# Altium footprint library Footprints.PcbLib: 27 footprints (part 2 of 2)
Each footprint in its own frame and in the unit in brackets; x right, y up, seen from the top. Pads: shape width x height; smd on the part's side, far side on the other; paste and mask are expansions set on the pad; w line width, h text height; cw(c..) or ccw(c..) is an arc to the next point about the centre after c.
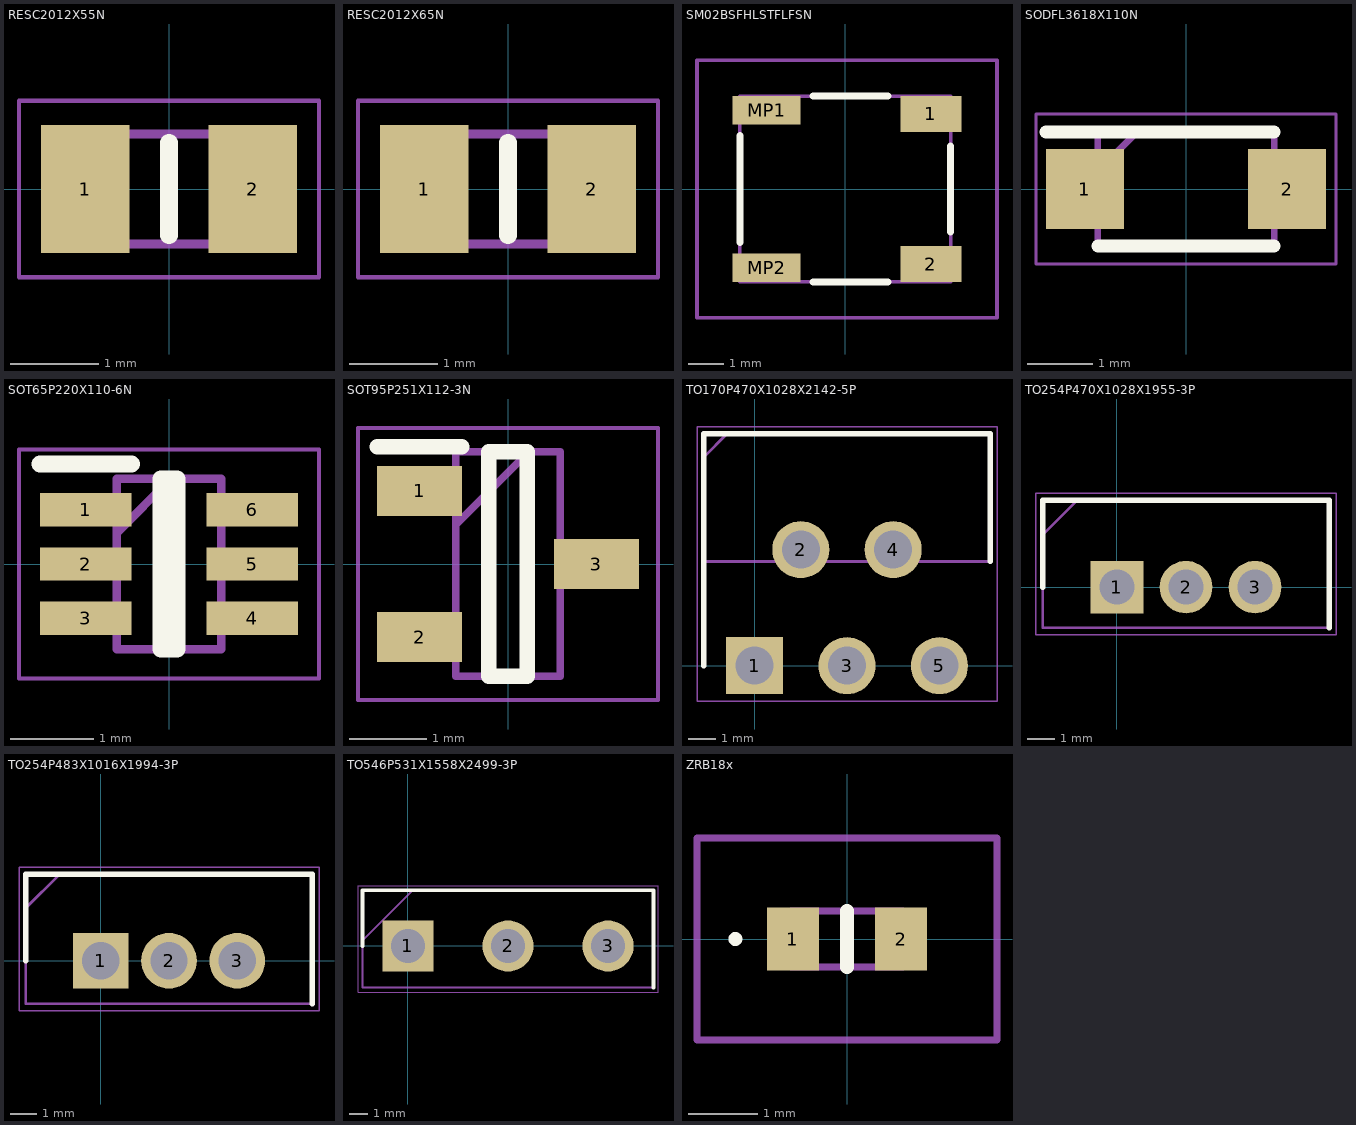
[diagram p1: the footprints below, top view; thin cyan lines are the x and y axes]

## RESC2012X55N [mm]
pads (2):
  rect 1x1.45 smd: 1(-0.95,0) 2(0.95,0)
Top Overlay:
  lines w0.2: 0,-0.525 0,0.525
Mechanical 15:
  lines w0.1: -1,-0.625 1,-0.625 1,0.625 -1,0.625 -1,-0.625
Mechanical 20:
  lines w0.05: -1.7,-1 1.7,-1 1.7,1 -1.7,1 -1.7,-1

## RESC2012X65N [mm]
pads (2):
  rect 1x1.45 smd: 1(-0.95,0) 2(0.95,0)
Top Overlay:
  lines w0.2: 0,-0.525 0,0.525
Mechanical 15:
  lines w0.1: -1,-0.625 -1,0.625 1,0.625 1,-0.625 -1,-0.625
Mechanical 20:
  lines w0.05: -1.7,-1 -1.7,1 1.7,1 1.7,-1 -1.7,-1

## SM02BSFHLSTFLFSN [mm]
pads (4):
  rect 1.7x1 smd: 1(2.4,2.1) 2(2.4,-2.1)
  rect 1.9x0.8 smd: MP1(-2.2,2.2) MP2(-2.2,-2.2)
Top Overlay:
  lines w0.2: -2.95,-1.5 -2.95,1.5 ; -0.9,-2.6 1.2,-2.6 ; -0.9,2.6 1.2,2.6 ; 2.95,-1.2 2.95,1.2
Mechanical 15:
  lines w0.1: -2.95,-2.6 -2.95,2.6 2.95,2.6 2.95,-2.6 -2.95,-2.6
Mechanical 20:
  lines w0.1: -4.15,-3.6 -4.15,3.6 4.25,3.6 4.25,-3.6 -4.15,-3.6

## SODFL3618X110N [mm]
pads (2):
  rect 1.2x1.22 smd: 1(-1.55,0) 2(1.55,0)
Top Overlay:
  lines w0.2: -2.15,0.875 1.35,0.875 ; -1.35,-0.875 1.35,-0.875
Mechanical 15:
  lines w0.1: -1.35,0.275 -0.75,0.875 ; -1.35,-0.875 1.35,-0.875 1.35,0.875 -1.35,0.875 -1.35,-0.875
Mechanical 20:
  lines w0.05: -2.3,-1.15 2.3,-1.15 2.3,1.15 -2.3,1.15 -2.3,-1.15

## SOT65P220X110-6N [mm]
pads (6):
  rect 1.1x0.4 smd: 1(-1,0.65) 2(-1,0) 3(-1,-0.65) 4(1,-0.65) 5(1,0) 6(1,0.65)
Top Overlay:
  lines w0.2: -1.55,1.2 -0.45,1.2 ; -0.1,-1.025 -0.1,1.025 0.1,1.025 0.1,-1.025 -0.1,-1.025
Mechanical 15:
  lines w0.1: -0.625,0.375 0.025,1.025 ; -0.625,-1.025 -0.625,1.025 0.625,1.025 0.625,-1.025 -0.625,-1.025
Mechanical 20:
  lines w0.05: -1.8,-1.375 -1.8,1.375 1.8,1.375 1.8,-1.375 -1.8,-1.375

## SOT95P251X112-3N [mm]
pads (3):
  rect 1.1x0.65 smd: 1(-1.15,0.95) 2(-1.15,-0.95) 3(1.15,0)
Top Overlay:
  lines w0.2: -1.7,1.525 -0.6,1.525 ; -0.25,-1.46 -0.25,1.46 0.25,1.46 0.25,-1.46 -0.25,-1.46
Mechanical 15:
  lines w0.1: -0.68,0.51 0.27,1.46 ; -0.68,-1.46 -0.68,1.46 0.68,1.46 0.68,-1.46 -0.68,-1.46
Mechanical 20:
  lines w0.05: -1.95,-1.77 -1.95,1.77 1.95,1.77 1.95,-1.77 -1.95,-1.77

## TO170P470X1028X2142-5P [mm]
pads (5):
  rect 2.1x2.1 / inner round 2.1 / far side rect 2.1x2.1 hole 1.4: 1(0,0)
  round 2.1 hole 1.4: 2(1.7,4.27) 3(3.4,0) 4(5.1,4.27) 5(6.8,0)
Top Overlay:
  lines w0.2: -1.87,0 -1.87,8.535 8.67,8.535 8.67,3.835
Mechanical 15:
  lines w0.1: -1.87,7.685 -1.02,8.535 ; -1.87,3.835 8.67,3.835 8.67,8.535 -1.87,8.535 -1.87,3.835
Mechanical 20:
  lines w0.05: -2.12,-1.3 8.92,-1.3 8.92,8.785 -2.12,8.785 -2.12,-1.3

## TO254P470X1028X1955-3P [mm]
pads (3):
  rect 1.935x1.935 / inner round 1.935 / far side rect 1.935x1.935 hole 1.29: 1(0,0)
  round 1.935 hole 1.29: 2(2.54,0) 3(5.08,0)
Top Overlay:
  lines w0.2: -2.73,0 -2.73,3.2 7.81,3.2 7.81,-1.5
Mechanical 15:
  lines w0.1: -2.73,1.93 -1.46,3.2 ; -2.73,-1.5 7.81,-1.5 7.81,3.2 -2.73,3.2 -2.73,-1.5
Mechanical 20:
  lines w0.05: -2.98,-1.75 8.06,-1.75 8.06,3.45 -2.98,3.45 -2.98,-1.75

## TO254P483X1016X1994-3P [mm]
pads (3):
  rect 2.07x2.07 hole 1.38: 1(0,0)
  round 2.07 hole 1.38: 2(2.54,0) 3(5.08,0)
Top Overlay:
  lines w0.2: -2.795,0 -2.795,3.225 7.875,3.225 7.875,-1.605
Mechanical 13:
  lines w0.1: -2.795,1.955 -1.525,3.225 ; -2.795,-1.605 7.875,-1.605 7.875,3.225 -2.795,3.225 -2.795,-1.605
Mechanical 15:
  lines w0.05: -3.045,-1.855 8.125,-1.855 8.125,3.475 -3.045,3.475 -3.045,-1.855
3D body "IRLB4132PBF.stp": height 20.74, standoff -10.5, extent -2.54,-1.283 7.62,2.908

## TO546P531X1558X2499-3P [mm]
pads (3):
  rect 2.79x2.79 / inner round 2.79 / far side rect 2.79x2.79 hole 1.86: 1(0,0)
  round 2.79 hole 1.86: 2(5.46,0) 3(10.92,0)
Top Overlay:
  lines w0.2: -2.475,0 -2.475,3.035 13.395,3.035 13.395,-2.275
Mechanical 15:
  lines w0.1: -2.475,0.305 0.255,3.035 ; -2.475,-2.275 13.395,-2.275 13.395,3.035 -2.475,3.035 -2.475,-2.275
Mechanical 20:
  lines w0.05: -2.725,-2.525 13.645,-2.525 13.645,3.285 -2.725,3.285 -2.725,-2.525

## ZRB18x [mm]
pads (2):
  rect 0.75x0.9 smd: 1(-0.775,0) 2(0.775,0)
Top Overlay:
  lines w0.1: -1.6,-0.05 cw(c-1.6,0) -1.6,0.05 cw(c-1.6,0) -1.6,-0.05
  lines w0.2: 0,-0.4 0,0.4
Mechanical 13:
  lines w0.1: -0.8,-0.4 0.8,-0.4 0.8,0.4 -0.8,0.4 -0.8,-0.4
Mechanical 15:
  lines w0.1: -2.15,-1.45 2.15,-1.45 2.15,1.45 -2.15,1.45 -2.15,-1.45